# Altium integrated library Motorola Interface Line Transceiver.IntLib: 54 symbols (part 2 of 2)
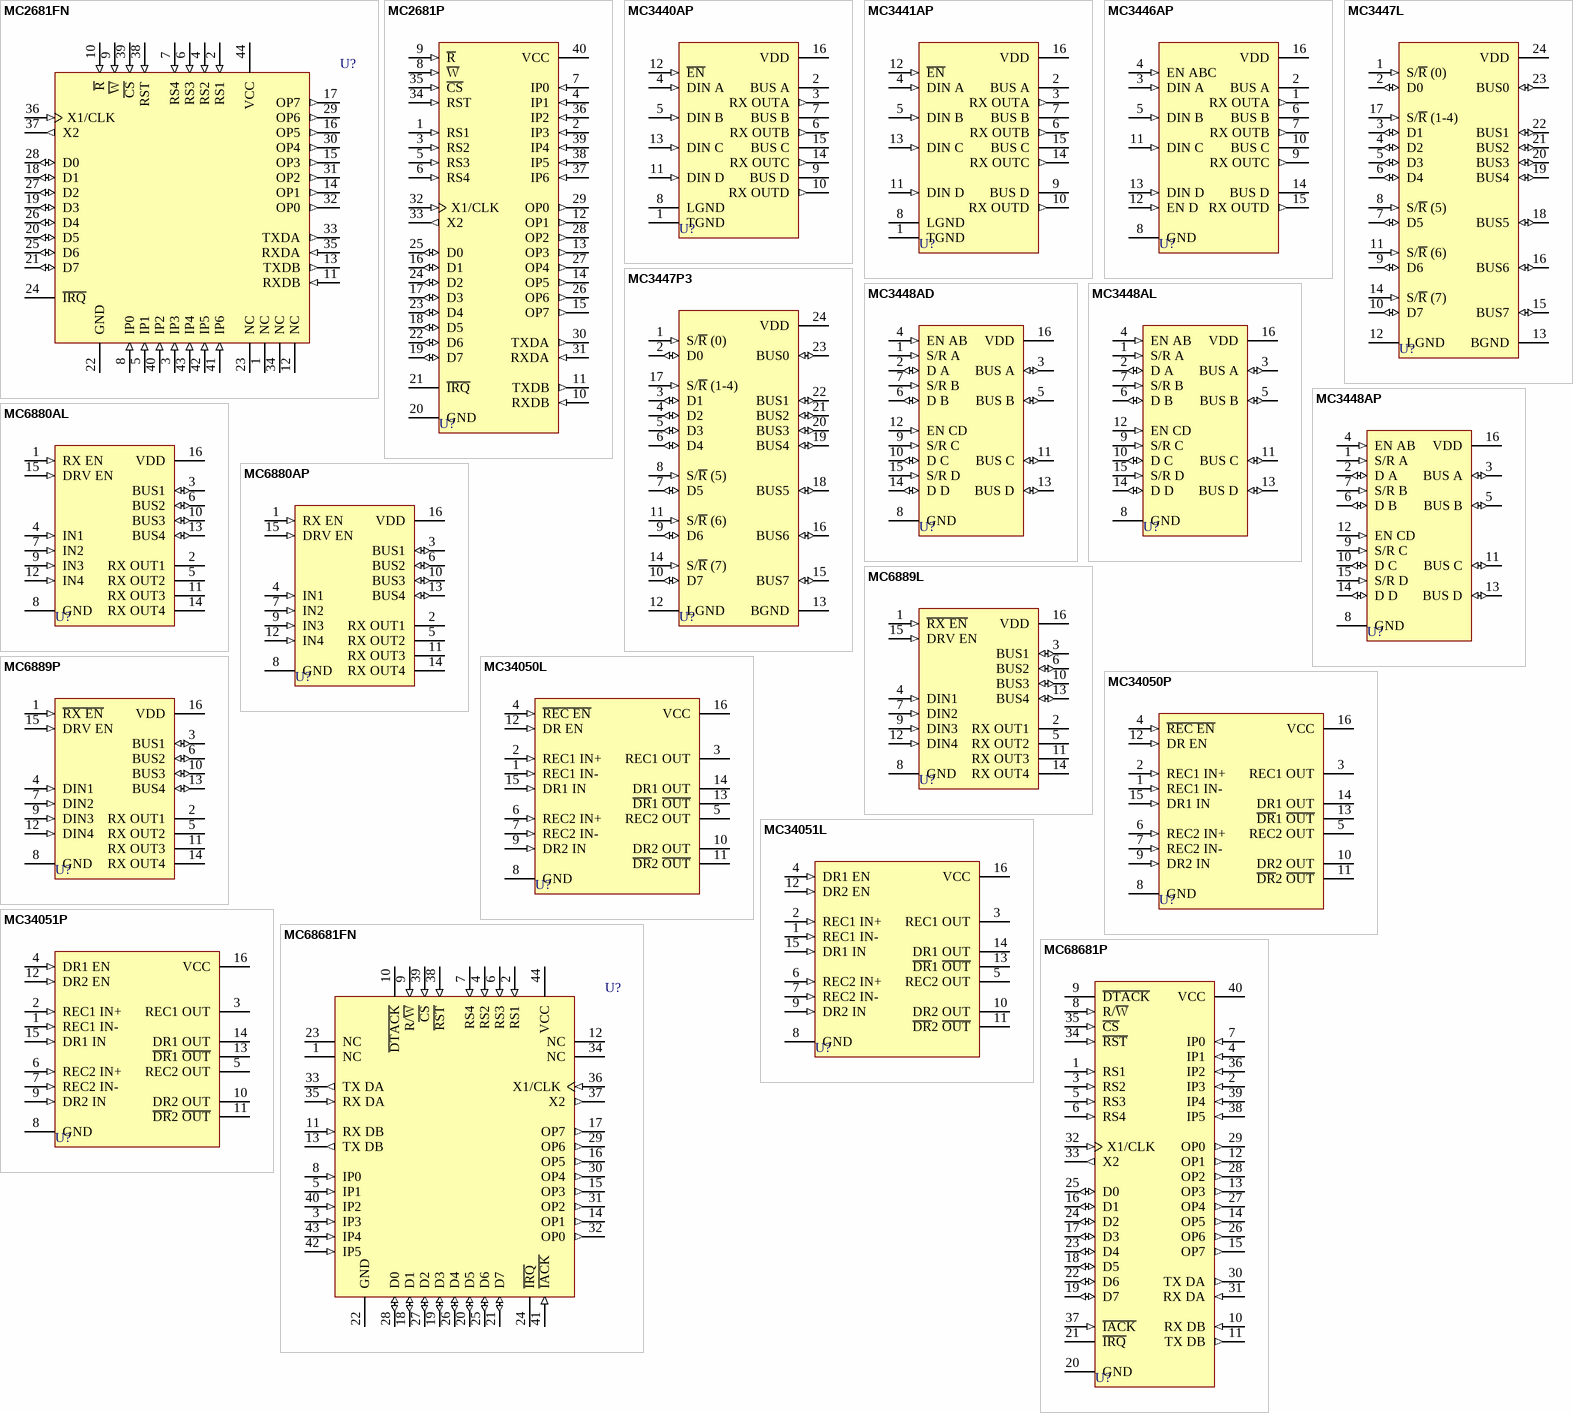
[diagram p2: symbols MC2681FN to MC68681P]

## MC34051P
designator U?
Dual EIA-422/423 Transceiver; Published: 17-Jul-2002; LatestRevisionDate: 06-Jun-2005; LatestRevisionNote: Stylized 3D Model Added.; DatasheetVersion: 1988; PackageReference: 648-06; Publisher: Altium Limited; PackageDescription: DIP; 16 Leads; Row Spacing 7.62 mm; Pitch 2.54 mm; ComponentLink1Description: Manufacturer Link; ComponentLink1URL: http://www.onsemi.com/site/products/parametrics/0,4446,178,00.html
footprint 648-06 (DIP; 16 Leads; Row Spacing 7.62 mm; Pitch 2.54 mm)
3D model 648-06 (DIP; 16 Leads; Row Spacing 7.62 mm; Pitch 2.54 mm)
pins: 1 REC1 IN- (in), 2 REC1 IN+ (in), 3 REC1 OUT (hiz), 4 DR1 EN (in), 5 REC2 OUT (hiz), 6 REC2 IN+ (in), 7 REC2 IN- (in), 8 GND (power), 9 DR2 IN (in), 10 DR2 OUT (hiz), 11 ~{DR}2 ~{OUT} (hiz), 12 DR2 EN (in), 13 ~{DR}1 ~{OUT} (hiz), 14 DR1 OUT (hiz), 15 DR1 IN (in), 16 VCC (power)

## MC68681FN
designator U?
Dual Asynchronous Receiver/Transmitter; Published: 17-Jul-2002; LatestRevisionDate: 13-Apr-2006; LatestRevisionNote: IPC-7351 Footprint Added.; DatasheetVersion: 1990; PackageVersion: rev3, Feb-2002; PackageReference: 777-02; Publisher: Altium Limited; PackageDescription: 44-Pin Plastic Leaded Chip Carrier 1.27 mm Pitch; ComponentLink1Description: Manufacturer Link; ComponentLink1URL: http://www.onsemi.com/site/products/parametrics/0,4446,178,00.html
footprint 777-02_N (Leaded Chip Carrier, 44-Leads, Body 16.6x16.6mm, Pitch 1.27mm, IPC Medium Density)
footprint 777-02_L (Leaded Chip Carrier, 44-Leads, Body 16.6x16.6mm, Pitch 1.27mm, IPC High Density)
footprint 777-02_M (Leaded Chip Carrier, 44-Leads, Body 16.6x16.6mm, Pitch 1.27mm, IPC Low Density)
3D model MC68681-777-02 (44-Pin Plastic Leaded Chip Carrier 1.27 mm Pitch)
pins: 1 NC, 2 RS1 (in), 3 IP3 (in), 4 RS2 (in), 5 IP1 (in), 6 RS3 (in), 7 RS4 (in), 8 IP0 (in), 9 R/~{W} (in), 10 ~{DTACK} (oc), 11 RX DB (in), 12 NC, 13 TX DB (out), 14 OP1 (out), 15 OP3 (out), 16 OP5 (out), 17 OP7 (out), 18 D1 (io), 19 D3 (io), 20 D5 (io), 21 D7 (io), 22 GND (power), 23 NC, 24 ~{IRQ} (oc), 25 D6 (io), 26 D4 (io), 27 D2 (io), 28 D0 (io), 29 OP6 (out), 30 OP4 (out), 31 OP2 (out), 32 OP0 (out), 33 TX DA (out), 34 NC, 35 RX DA (in), 36 X1/CLK (in), 37 X2 (out), 38 ~{RST} (in), 39 ~{CS} (in), 40 IP2 (in), 41 ~{IACK} (in), 42 IP5 (in), 43 IP4 (in), 44 VCC (power)

## MC68681P
designator U?
Dual Asynchronous Receiver/Transmitter; Published: 17-Jul-2002; LatestRevisionDate: 06-Jun-2005; LatestRevisionNote: Stylized 3D Model Added.; DatasheetVersion: 1990; PackageReference: 711-03; Publisher: Altium Limited; PackageDescription: DIP; 40 Leads; Row Spacing 15.24 mm; Pitch 2.54 mm; ComponentLink1Description: Manufacturer Link; ComponentLink1URL: http://www.onsemi.com/site/products/parametrics/0,4446,178,00.html
footprint 711-03 (DIP; 40 Leads; Row Spacing 15.24 mm; Pitch 2.54 mm)
3D model 711-03 (DIP; 40 Leads; Row Spacing 15.24 mm; Pitch 2.54 mm)
pins: 1 RS1 (in), 2 IP3 (in), 3 RS2 (in), 4 IP1 (in), 5 RS3 (in), 6 RS4 (in), 7 IP0 (in), 8 R/~{W} (in), 9 ~{DTACK} (oc), 10 RX DB (in), 11 TX DB (out), 12 OP1 (out), 13 OP3 (out), 14 OP5 (out), 15 OP7 (out), 16 D1 (io), 17 D3 (io), 18 D5 (io), 19 D7 (io), 20 GND (power), 21 ~{IRQ} (oc), 22 D6 (io), 23 D4 (io), 24 D2 (io), 25 D0 (io), 26 OP6 (out), 27 OP4 (out), 28 OP2 (out), 29 OP0 (out), 30 TX DA (out), 31 RX DA (in), 32 X1/CLK (in), 33 X2 (out), 34 ~{RST} (in), 35 ~{CS} (in), 36 IP2 (in), 37 ~{IACK} (in), 38 IP5 (in), 39 IP4 (in), 40 VCC (power)